# EAGLE library part MEMSIC2125_ACCELEROMETER (library MlabPaja)
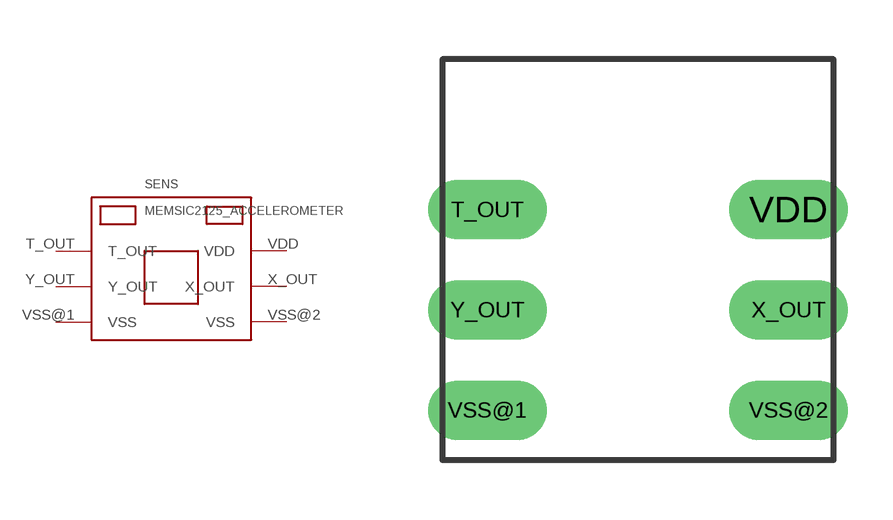
[diagram p3: symbol with the pads of MEMSIC2125_ACCELEROMETER; footprint MEMSIC2125_ACCELEROMETER]

Designator prefix SENS

## MEMSIC2125_ACCELEROMETER  [MEMSIC2125_ACCELEROMETER]
T_OUT  T_OUT  out
VDD  VDD  pwr
VSS@1  VSS  pwr
VSS@2  VSS  pwr
X_OUT  X_OUT  out
Y_OUT  Y_OUT  out

## Footprint MEMSIC2125_ACCELEROMETER (pad centres in mm)
Dual In Line Package
drill 1 long: T_OUT -3.81,1.27; VDD 3.81,1.27; VSS@1 -3.81,-3.81; VSS@2 3.81,-3.81; X_OUT 3.81,-1.27; Y_OUT -3.81,-1.27